# EAGLE library part HEADER-01X017-2_54MM (library FlashPCB_Connectors)
Header 1x17 - Header Vertical 17POS 2.54MM Technical Specifications: Pitch: 0.1" (2.54mm)
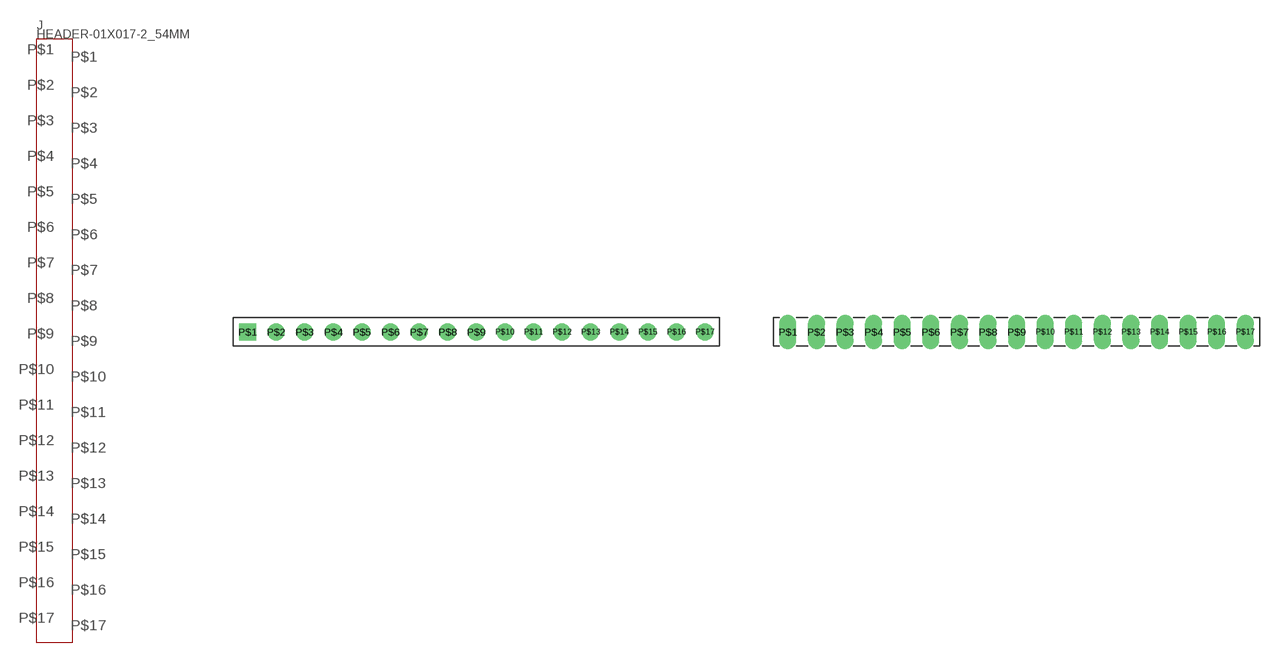
[diagram p20: symbol with the pads of HEADER-THT-01X017-2_54MM; footprints HEADER-THT-01X017-2_54MM, HEADER-THT-LONG-01X017-2_54MM]

Designator prefix J

## HEADER-01X017-2_54MMSTANDARD  [HEADER-THT-01X017-2_54MM]
P$1  P$1
P$2  P$2
P$3  P$3
P$4  P$4
P$5  P$5
P$6  P$6
P$7  P$7
P$8  P$8
P$9  P$9
P$10  P$10
P$11  P$11
P$12  P$12
P$13  P$13
P$14  P$14
P$15  P$15
P$16  P$16
P$17  P$17

## HEADER-01X017-2_54MMOVAL_PADS  [HEADER-THT-LONG-01X017-2_54MM]
Pads as for HEADER-THT-01X017-2_54MM

## HEADER-01X017-2_54MMSTANDARD_NOSILK  [HEADER-THT-NOSILK-01X017-2_54MM]
Pads as for HEADER-THT-01X017-2_54MM

## HEADER-01X017-2_54MMOVAL_PADS_NOSILK  [HEADER-THT-LONG-NOSILK-01X017-2_54MM]
Pads as for HEADER-THT-01X017-2_54MM

## Footprint HEADER-THT-01X017-2_54MM (pad centres in mm)
drill 1.016 square: P$1 0,0
drill 1.016: P$2 2.54,0; P$3 5.08,0; P$4 7.62,0; P$5 10.16,0; P$6 12.7,0; P$7 15.24,0; P$8 17.78,0; P$9 20.32,0; P$10 22.86,0; P$11 25.4,0; P$12 27.94,0; P$13 30.48,0; P$14 33.02,0; P$15 35.56,0; P$16 38.1,0; P$17 40.64,0

## Footprint HEADER-THT-LONG-01X017-2_54MM (pad centres in mm)
drill 1.016 long: P$1 0,0; P$2 2.54,0; P$3 5.08,0; P$4 7.62,0; P$5 10.16,0; P$6 12.7,0; P$7 15.24,0; P$8 17.78,0; P$9 20.32,0; P$10 22.86,0; P$11 25.4,0; P$12 27.94,0; P$13 30.48,0; P$14 33.02,0; P$15 35.56,0; P$16 38.1,0; P$17 40.64,0

## Footprint HEADER-THT-NOSILK-01X017-2_54MM (pad centres in mm)
drill 1.016 square: P$1 0,0
drill 1.016: P$2 2.54,0; P$3 5.08,0; P$4 7.62,0; P$5 10.16,0; P$6 12.7,0; P$7 15.24,0; P$8 17.78,0; P$9 20.32,0; P$10 22.86,0; P$11 25.4,0; P$12 27.94,0; P$13 30.48,0; P$14 33.02,0; P$15 35.56,0; P$16 38.1,0; P$17 40.64,0

## Footprint HEADER-THT-LONG-NOSILK-01X017-2_54MM (pad centres in mm)
drill 1.016 long: P$1 0,0; P$2 2.54,0; P$3 5.08,0; P$4 7.62,0; P$5 10.16,0; P$6 12.7,0; P$7 15.24,0; P$8 17.78,0; P$9 20.32,0; P$10 22.86,0; P$11 25.4,0; P$12 27.94,0; P$13 30.48,0; P$14 33.02,0; P$15 35.56,0; P$16 38.1,0; P$17 40.64,0